# Altium schematic symbol library Passive.SchLib: 6 symbols
Pins are listed as number, name and electrical type; pins without a type are passive.

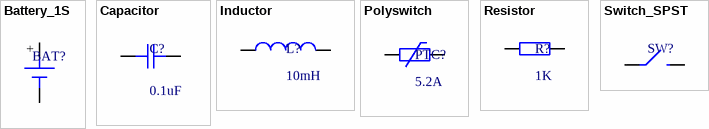
[diagram p0: symbols Battery_1S to Switch_SPST]

## Battery_1S
designator BAT?
Generic single cell battery
footprint WAGO 2059-302 (Wire to Board Terminal, 2-Poles, 3mm Pitch); pin to pad +>1 ->2
pins: + (power), - (power)

## Capacitor
designator C?, comment 0.1uF
Generic Capacitor; Value: 0.1uF
footprint 1608[0603]_M (Two Terminal Package, Body 1.6x0.8mm, IPC Low Density)
footprint 2012[0805]_M (Two Terminal Package, Body 1.6x0.8mm, IPC Low Density)
pins: 1, 2

## Inductor
designator L?, comment 10mH
Inductor; Value: 10mH
footprint 2520[1008]_N (Two Terminal Package, Body 2.5x2mm, IPC Medium Density)
pins: 1, 2

## Polyswitch
designator PTC?, comment 5.2A
Generic polyswitch; Value: 5.2A
footprint 7351[2950]_N (Two Terminal Package, Body 7.3x5.1mm, IPC Medium Density)
pins: 1, 2

## Resistor
designator R?, comment 1K
Generic Resistor; Value: 1K
footprint 1608[0603]_M (Two Terminal Package, Body 1.6x0.8mm, IPC Low Density)
footprint 2012[0805]_M (Two Terminal Package, Body 1.6x0.8mm, IPC Low Density)
pins: 1, 2

## Switch_SPST
designator SW?  (value not drawn)
Generic SPST Switch
footprint B3F-10XX (Omron Tactile Switch, Flat Plunger Type); pin to pad A>1 B>3
pins: A, B